# Altium schematic symbol library TLV62569x.SchLib: 4 symbols
Pins are listed as number, name and electrical type; pins without a type are passive.

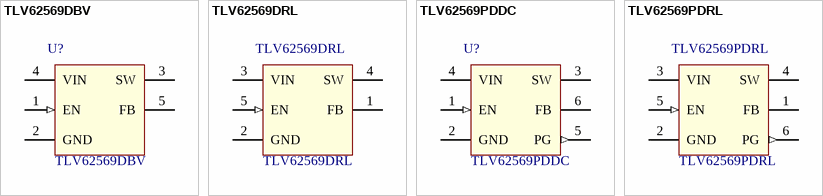
[diagram p0: symbols TLV62569DBV to TLV62569PDRL]

## TLV62569DBV
designator U?, comment value TLV62569DBV  (hidden comment: TLV62569DBV SOT23-5)
footprint SOT-23-5 (SOT23, 5-Leads, Body 2.9x1.6mm, Pitch 0.95mm, Lead Span 2.8mm, IPC Medium Density)
pins: 1 EN (in), 2 GND (power), 3 SW, 4 VIN (power), 5 FB

## TLV62569DRL
designator TLV62569DRL, comment value TLV62569DRL  (hidden comment: TLV62569 SOT563-6)
footprint SOT-563-6 (DRL0006A) (SOT563, 6-Leads, Body 1.2x1.6mm, Pitch 0.50mm, IPC Medium Density)
pins: 1 FB, 2 GND (power), 3 VIN (power), 4 SW, 5 EN (in)

## TLV62569PDDC
designator U?, comment value TLV62569PDDC  (hidden comment: TLV62569P SOT23-6)
footprint SOT-23-6 (SOT23, 6-Leads, Body 2.9x1.6mm, Pitch 0.95mm, Lead Span 2.8mm, IPC Medium Density)
pins: 1 EN (in), 2 GND (power), 3 SW, 4 VIN (power), 5 PG (out), 6 FB

## TLV62569PDRL
designator TLV62569PDRL, comment value TLV62569PDRL  (hidden comment: TLV62569P SOT563-6)
footprint SOT-563-6 (DRL0006A) (SOT563, 6-Leads, Body 1.2x1.6mm, Pitch 0.50mm, IPC Medium Density)
pins: 1 FB, 2 GND (power), 3 VIN (power), 4 SW, 5 EN (in), 6 PG (out)